# Altium footprint library Soardra.PcbLib: 139 footprints (part 6 of 9)
Each footprint in its own frame and in the unit in brackets; x right, y up, seen from the top. Pads: shape width x height; smd on the part's side, far side on the other; paste and mask are expansions set on the pad; w line width, h text height; cw(c..) or ccw(c..) is an arc to the next point about the centre after c.
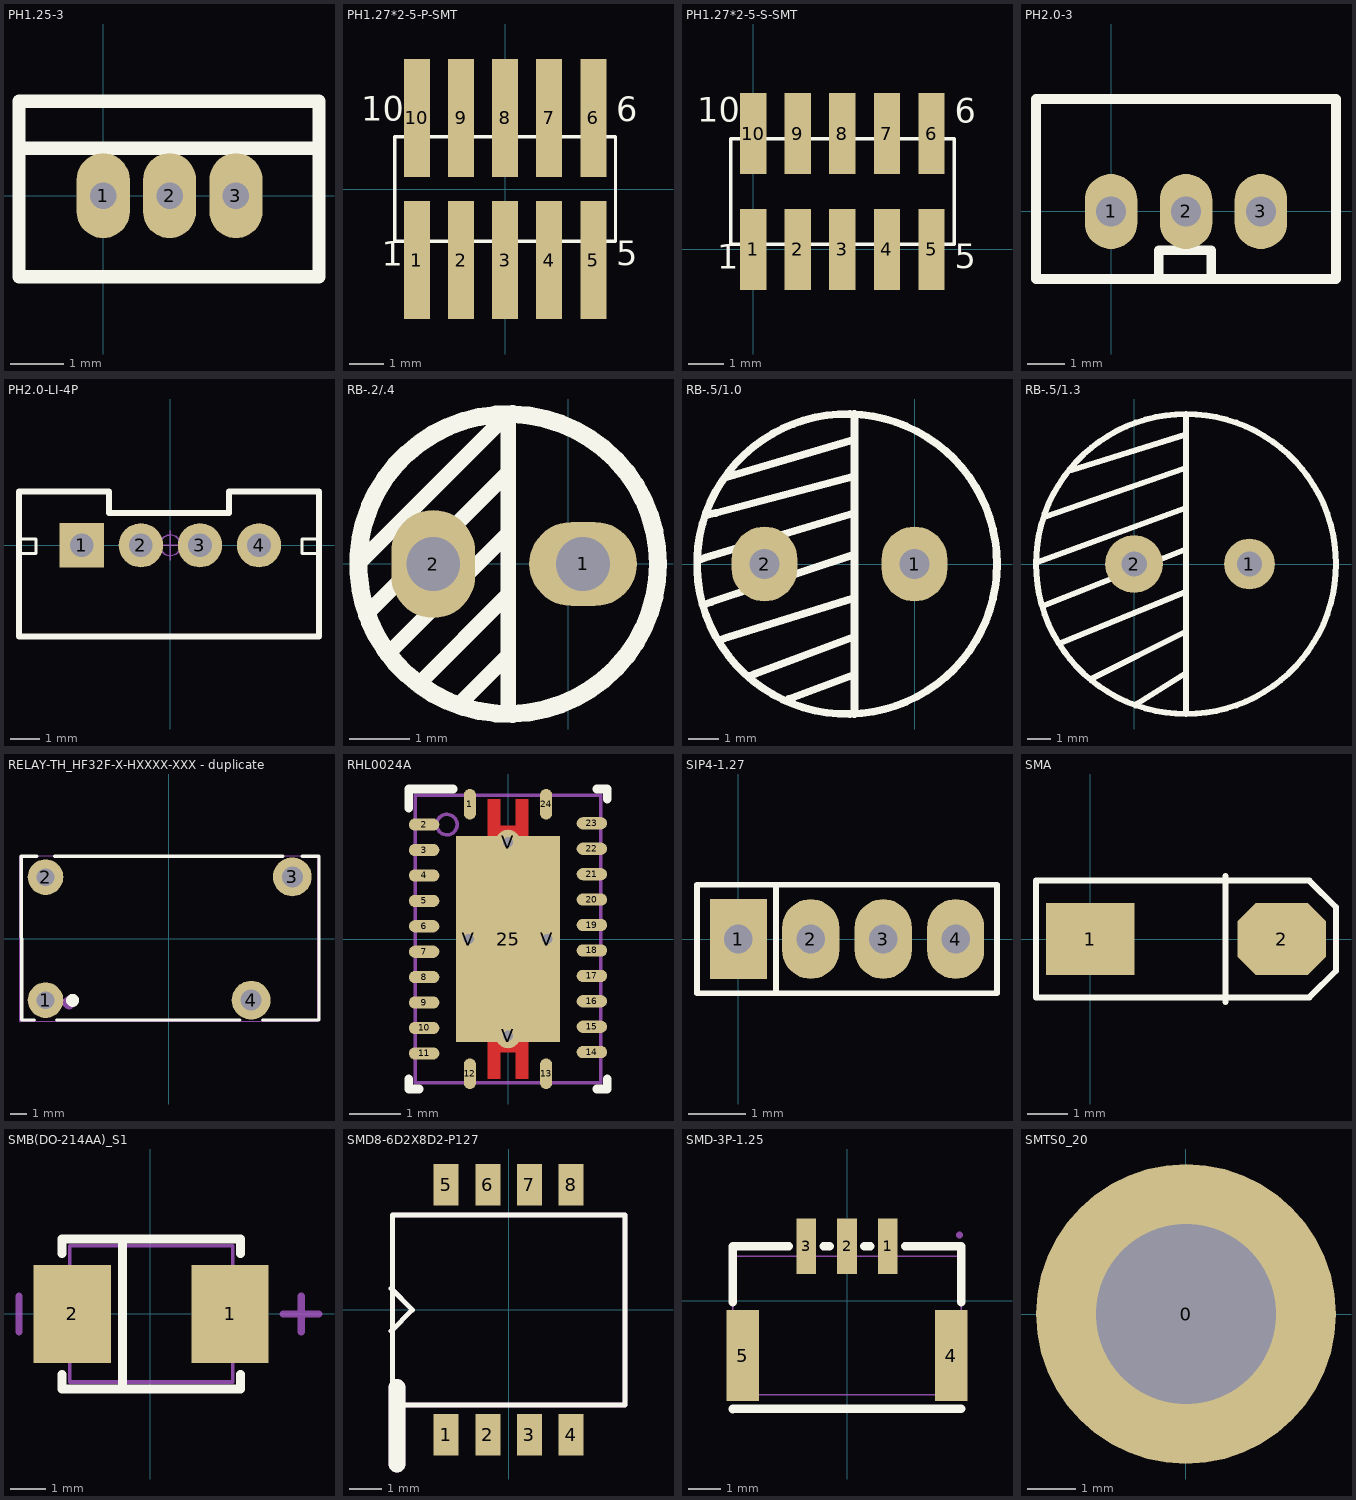
[diagram p5: the footprints below, top view; thin cyan lines are the x and y axes]

## PH1.25-3 [mm]
height 1.14
pads (3):
  oval 1x1.6 hole 0.5: 1(0,0) 2(1.25,0) 3(2.5,0)
Top Overlay:
  lines w0.254: -1.586,0.889 4.064,0.889 ; -1.586,-1.524 4.064,-1.524 4.064,1.776 -1.586,1.776 -1.586,-1.524

## PH1.27*2-5-P-SMT [mm]
pads (10):
  rect 0.75x3.4 smd: 1(-2.54,-2.05) 2(-1.27,-2.05) 3(0,-2.05) 4(1.27,-2.05) 5(2.54,-2.05) 6(2.54,2.05) 7(1.27,2.05) 8(0,2.05) 9(-1.27,2.05) 10(-2.54,2.05)
Top Overlay:
  lines w0.1: -3.18,-1.5 3.18,-1.5 3.18,1.5 -3.18,1.5 -3.18,-1.5
  text "10" at -4.142,1.741 h1.2
  text "6" at 3.205,1.721 h1.2
  text "5" at 3.205,-2.434 h1.2
  text "1" at -3.559,-2.444 h1.2

## PH1.27*2-5-S-SMT [mm]
pads (10):
  rect 0.75x2.3 smd: 1(0,0) 2(1.27,0) 3(2.54,0) 4(3.81,0) 5(5.08,0) 6(5.08,3.3) 7(3.81,3.3) 8(2.54,3.3) 9(1.27,3.3) 10(0,3.3)
Top Overlay:
  lines w0.1: -0.64,0.15 -0.64,3.15 5.72,3.15 5.72,0.15 -0.64,0.15
  text "1" at -1.019,-0.794 h1.2
  text "5" at 5.745,-0.784 h1.2
  text "6" at 5.745,3.371 h1.2
  text "10" at -1.602,3.391 h1.2

## PH2.0-3 [mm]
height 1.14
pads (3):
  oval 1.4x2 hole 0.8: 1(0,0) 2(2,0) 3(4,0)
Top Overlay:
  lines w0.254: 1.27,-1.765 1.27,-1.029 2.667,-1.029 2.667,-1.765 ; -2,-1.8 6,-1.8 6,3 -2,3 -2,-1.8

## PH2.0-LI-4P [mm]
height 0.5
pads (4):
  rect 1.5x1.5 hole 0.8: 1(-3,0)
  round 1.5 hole 0.8: 2(-1,0) 3(1,0) 4(3,0)
Top Overlay:
  lines w0.1: -5.128,-0.284 -4.548,-0.284 -4.548,0.216 -5.128,0.216 ; 5.032,-0.284 4.452,-0.284 4.452,0.216 5.032,0.216
  lines w0.2: -5.128,1.816 -5.128,-3.084 5.032,-3.084 5.032,1.816 ; -2.08,1.816 -2.08,1.1 1.984,1.1 1.984,1.816
  lines w0.203: -5.128,1.816 -2.08,1.816 ; 1.984,1.816 5.032,1.816
Mechanical 15:
  circle w0.05: c0,0 r0.35
  lines w0.05: -0.5,0 0.5,0 ; 0,-0.5 0,0.5
3D body "PH2.0-LI-4P.STEP": height 6.01, standoff -2.99, extent -4.95,-3 4.95,1.7

## RB-.2/.4 [mm]
pads (2):
  oval 1.8x1.4 hole 0.9: 1(0.25,0)
  oval 1.4x1.8 hole 0.9: 2(-2.25,0)
Top Overlay:
  circle w0.3: c-1,0 r2.5
  lines w0.254: -3.505,0 -1.168,2.337 -1,2.337 ; -3.378,-0.854 -1,1.524 ; -3.023,-1.515 -1,0.508 ; -2.499,-2.007 -1,-0.508 ; -1.838,-2.362 -1,-1.524 ; -1,-2.5 -1,2.5

## RB-.5/1.0 [mm]
pads (2):
  oval 2.2x2.5 hole 1: 1(0,0) 2(-5,0)
Top Overlay:
  circle w0.254: c-2.25,0 r5
  lines w0.254: -7.214,0.127 -6.985,0.203 -2,1.702 ; -7.036,-1.372 -6.782,-1.27 -2.032,0.305 ; -6.934,1.626 -6.629,1.702 -2,2.921 ; -6.502,-2.54 -6.223,-2.438 -2.032,-1.143 ; -6.274,2.896 -5.994,2.972 -2.032,4.14 ; -5.486,-3.734 -5.309,-3.658 -2.032,-2.438 ; -4.191,-4.496 -2,-3.683 ; -2,-5 -2,5

## RB-.5/1.3 [mm]
pads (2):
  round 2.2 hole 1.1: 1(5,0)
  round 2.5 hole 1.1: 2(0,0)
Top Overlay:
  circle w0.254: c2.25,0 r6.5
  lines w0.254: -4.195,0.076 2.206,2.413 ; -3.941,-1.803 2.25,0.635 ; -3.915,2.032 2.206,4.14 ; -3.255,-3.454 2.25,-1.194 ; -2.722,4.064 2.25,5.613 ; -1.807,-4.953 2.206,-2.946 ; 0.149,-6.045 2.25,-4.724 ; 2.25,-6.5 2.25,6.5

## RELAY-TH_HF32F-X-HXXXX-XXX - duplicate [mm]
pads (4):
  round 2.2 hole 1.1 paste+0 mask+0.051: 1(-7.62,-3.81) 2(-7.62,3.79)
  round 2.4 hole 1.3 paste+0 mask+0.051: 3(7.62,3.81) 4(5.08,-3.81)
Top Overlay:
  circle w0.4: c-5.95,-3.82 r0.2
  lines w0.2: -9.11,-5.04 -8.313,-5.03 ; -9.091,-5.03 -9.12,5.08 -8.17,5.08 ; -7.07,5.08 7.024,5.08 ; -6.927,-5.03 4.387,-5.03 ; 5.773,-5.03 9.27,-5.03 9.27,5.08 8.216,5.08
Mechanical 6:
  circle w0.4: c-6.17,-3.97 r0.2
Mechanical 15:
  region: 7.47,4.21 7.77,4.21 7.77,3.41 7.47,3.41
  region: 4.93,-3.41 5.23,-3.41 5.23,-4.21 4.93,-4.21
  region: -7.845,4.015 -7.395,4.015 -7.395,3.565 -7.845,3.565
  region: -7.845,-3.585 -7.395,-3.585 -7.395,-4.035 -7.845,-4.035
  region: -9.14,-5.1 -9.14,-5.075 -9.175,-5.04 -9.225,-5.04 -9.26,-5.075 -9.26,-5.1 -9.26,-5.125 -9.225,-5.16 -9.175,-5.16 -9.14,-5.125 -9.14,-5.1
  lines w0.051: -9.2,-5.1 -9.2,5.1 9.2,5.1 9.2,-5.1 -9.2,-5.1

## RHL0024A [mm]
pads (29):
  oval 0.24x0.6 smd paste-0.102 mask+0.051: 1(-0.75,2.65) 12(-0.75,-2.65) 13(0.75,-2.65) 24(0.75,2.65)
  oval 0.6x0.24 smd paste-0.102 mask+0.051: 2(-1.65,2.25) 3(-1.65,1.75) 4(-1.65,1.25) 5(-1.65,0.75) 6(-1.65,0.25) 7(-1.65,-0.25) 8(-1.65,-0.75) 9(-1.65,-1.25) 10(-1.65,-1.75) 11(-1.65,-2.25) 14(1.65,-2.225) 15(1.65,-1.725) 16(1.65,-1.225) 17(1.65,-0.725) 18(1.65,-0.225) 19(1.65,0.275) 20(1.65,0.775) 21(1.65,1.275) 22(1.65,1.775) 23(1.65,2.275)
  rect 2.05x4.05 smd paste-2.012 mask+0.051: 25(0,0)
  round 0.5 / inner round 1.524 / far side round 0.5 hole 0.203 paste-0.25 mask+0.076: V(-0.775,0) V(0.775,0)
  round 0.5 / inner round 1.524 / far side round 0.5 hole 0.203 paste-0.25 mask+0.051: V(0,-1.9) V(0,1.9)
Top Layer:
  region: -0.395,-2.024 -0.395,-2.225 0.395,-2.225 0.395,-2.024
  region: -0.396,2.75 -0.396,2 -0.154,2 -0.154,2.75
  region: 0.152,2.75 0.152,2 0.394,2 0.394,2.75
  region: -0.395,2.225 -0.395,2.024 0.395,2.024 0.395,2.225
  region: -0.152,-2.75 -0.152,-2 -0.394,-2 -0.394,-2.75
  region: 0.396,-2.75 0.396,-2 0.154,-2 0.154,-2.75
Top Overlay:
  lines w0.17: -1.95,-2.75 -1.95,-2.95 -1.75,-2.95 ; -1.95,2.575 -1.95,2.95 -1.075,2.95 ; 1.75,-2.95 1.95,-2.95 1.95,-2.75 ; 1.75,2.95 1.95,2.95 1.95,2.75
Top Paste:
  region: -0.895,-0.1 -0.895,-1.798 0.894,-1.798 0.894,-0.1
  region: -0.895,1.798 -0.895,0.1 0.894,0.1 0.894,1.798
Top Solder:
  region: -0.446,-1.973 -0.446,-2.276 0.446,-2.276 0.446,-1.973
  region: -0.447,2.801 -0.447,1.949 -0.103,1.949 -0.103,2.801
  region: 0.101,2.801 0.101,1.949 0.445,1.949 0.445,2.801
  region: -0.446,2.276 -0.446,1.973 0.446,1.973 0.446,2.276
  region: -0.101,-2.801 -0.101,-1.949 -0.445,-1.949 -0.445,-2.801
  region: 0.447,-2.801 0.447,-1.949 0.103,-1.949 0.103,-2.801
Mechanical 13:
  circle w0.07: c-1.202,2.25 r0.202
  lines w0.07: -1.825,-2.825 -1.825,2.825 1.825,2.825 1.825,-2.825 -1.825,-2.825

## SIP4-1.27 [mm]
height 1.14
pads (4):
  rect 1x1.4 hole 0.5: 1(0,0)
  oval 1x1.4 hole 0.5: 2(1.27,0) 3(2.54,0) 4(3.81,0)
Top Overlay:
  lines w0.102: -0.724,0.94 -0.724,-0.953 0.66,-0.953 ; -0.724,0.953 0.66,0.953 ; 0.66,-0.953 0.66,0.953 ; 0.66,-0.953 4.534,-0.953 4.534,0.953 0.66,0.953

## SMA [mm]
height 1.14
pads (2):
  rect 2.2x1.8 smd: 1(0,0)
  oct 2.2x1.8 smd: 2(4.75,0)
Top Overlay:
  lines w0.15: 2.94,-1.45 5.44,-1.45 6.1,-0.79 6.1,0.79 5.44,1.45 3.04,1.45 ; 3.36,-1.56 3.36,1.56 ; 3.62,-1.45 -1.35,-1.45 -1.35,1.45 3.68,1.45

## SMB(DO-214AA)_S1 [mil]
pads (2):
  rect 85x107.99 smd: 1(88,-0.33) 2(-86.01,-0.33)
Top Overlay:
  lines w10: -97.43,-67.26 -97.43,-83.01 99.42,-83.01 99.42,-67.26 ; -97.43,66.6 -97.43,82.34 99.42,82.34 99.42,66.6 ; -30.5,-83.01 -30.5,82.34
Mechanical 13:
  lines w3.94: -88.97,-75.33 90.96,-75.33 90.96,74.67 -88.97,74.67 -88.97,-75.33
Mechanical 15:
  lines w8: -144.67,-20.02 -144.67,19.35 ; 146.66,-0.33 186.03,-0.33 ; 166.35,-20.02 166.35,19.35

## SMD8-6D2X8D2-P127 [mil] "SMD8-6D2X8D2-P127"
pads (8):
  rect 30x50 smd: 1(-75,-150) 2(-25,-150) 3(25,-150) 4(75,-150) 5(-75,150) 6(-25,150) 7(25,150) 8(75,150)
Top Overlay:
  lines w5.98: -140.98,-25.51 -115.51,0 -140.98,25.51 ; -139.49,-114.02 -139.49,114.02 139.49,114.02 139.49,-114.02 -139.49,-114.02
  lines w20: -134.01,-185 -134.01,-92.87
Mechanical 8:
  lines w5.98: -140.98,-25.51 -115.51,0 -140.98,25.51 ; -139.49,-114.02 139.49,-114.02 139.49,114.02 -139.49,114.02
  lines w20: -134.01,-185 -134.01,-92.87

## SMD-3P-1.25 [mm]
pads (5):
  rect 0.6x1.7 smd: 1(1.25,1.675) 2(0,1.675) 3(-1.25,1.675)
  rect 1x2.8 smd: 4(3.2,-1.675) 5(-3.2,-1.675)
Top Overlay:
  lines w0.254: -3.5,-3.325 -3.5,-3.306 3.5,-3.306 ; -3.5,-0.044 -3.5,1.675 -1.781,1.675 ; -0.719,1.675 -0.531,1.675 ; 0.531,1.675 0.719,1.675 ; 1.781,1.675 3.5,1.675 3.5,-0.044
Mechanical 15:
  region: 3.55,2.025 3.55,2.066 3.492,2.125 3.409,2.125 3.35,2.066 3.35,2.025 3.35,1.984 3.409,1.925 3.492,1.925 3.55,1.984 3.55,2.025
  region: -1.35,2.075 -1.15,2.075 -1.15,1.275 -1.35,1.275
  region: -0.1,2.075 0.1,2.075 0.1,1.275 -0.1,1.275
  region: 1.15,2.075 1.35,2.075 1.35,1.275 1.15,1.275
  region: -3.5,-0.38 -2.8,-0.38 -2.8,-2.88 -3.5,-2.88
  region: 2.8,-0.38 3.5,-0.38 3.5,-2.88 2.8,-2.88
  lines w0.051: -3.5,1.37 3.5,1.38 3.5,-2.88 -3.49,-2.87 -3.5,1.37

## SMTS0_20 [mm]
pads (1):
  round 6.2 hole 3.73: 0(0,0)